# Altium footprint library QUTMS_LogicLibrary.PcbLib: 1 footprints
Each footprint in its own frame and in the unit in brackets; x right, y up, seen from the top. Pads: shape width x height; smd on the part's side, far side on the other; paste and mask are expansions set on the pad; w line width, h text height; cw(c..) or ccw(c..) is an arc to the next point about the centre after c.
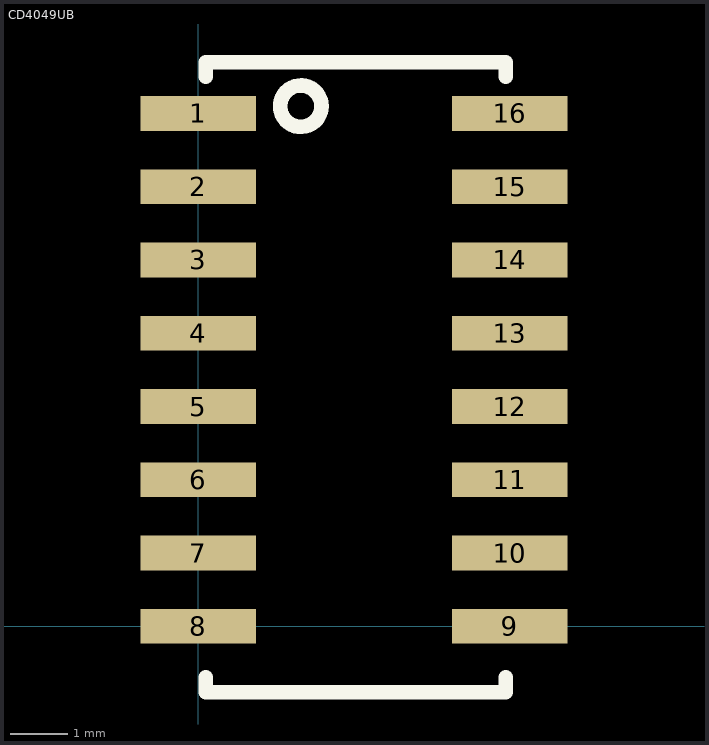
[diagram p0: the footprint, top view; thin cyan lines are the x and y axes]

## CD4049UB [mm]
pads (16):
  rect 2x0.6 smd: 1(0,8.89) 2(0,7.62) 3(0,6.35) 4(0,5.08) 5(0,3.81) 6(0,2.54) 7(0,1.27) 8(0,0) 9(5.4,0) 10(5.4,1.27) 11(5.4,2.54) 12(5.4,3.81) 13(5.4,5.08) 14(5.4,6.35) 15(5.4,7.62) 16(5.4,8.89)
Top Overlay:
  circle w0.254: c1.778,9.017 r0.359
  lines w0.254: 0.127,-0.889 0.127,-1.143 5.334,-1.143 5.334,-0.889 ; 0.127,9.525 0.127,9.779 5.334,9.779 5.334,9.525
3D body "SO16 Narrow 3.9mm.step": height 1.35, standoff 0, extent -0.29,-0.505 5.69,9.395